# Altium schematic symbol library CAP,Cer,10nF,100VDC,X5R,0805.Schlib: 1 symbol
Pins are listed as number, name and electrical type; pins without a type are passive.

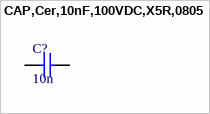
[diagram p0: symbol CAP,Cer,10nF,100VDC,X5R,0805]

## CAP,Cer,10nF,100VDC,X5R,0805
designator C?, comment 10n
10000 pF ±10% 100V Ceramic Capacitor X7R 0805 (2012 Metric)
pins: 1, 2